# Altium footprint library DG30825403P1400AH.PcbLib: 1 footprints
Each footprint in its own frame and in the unit in brackets; x right, y up, seen from the top. Pads: shape width x height; smd on the part's side, far side on the other; paste and mask are expansions set on the pad; w line width, h text height; cw(c..) or ccw(c..) is an arc to the next point about the centre after c.
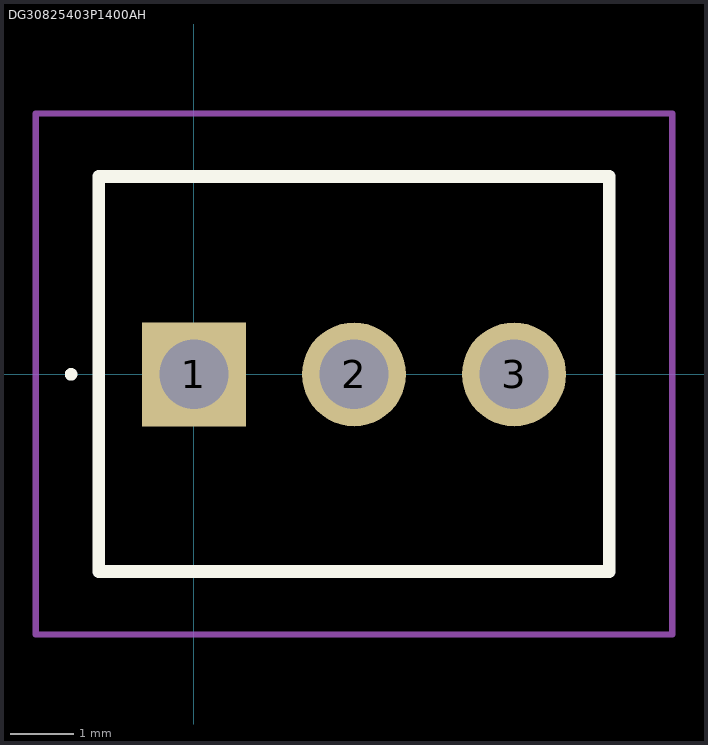
[diagram p0: the footprint, top view; thin cyan lines are the x and y axes]

## DG30825403P1400AH [mm]
pads (3):
  rect 1.65x1.65 hole 1.1: 1(0,0)
  round 1.65 hole 1.1: 2(2.54,0) 3(5.08,0)
Top Overlay:
  lines w0.1: -2,0 -2,0 ; -2,0 ccw(c-1.95,0) -1.9,0 ; -2,0 cw(c-1.95,0) -1.9,0 ; -1.9,0 -1.9,0
  lines w0.2: -1.51,-3.13 6.59,-3.13 6.59,3.14 -1.51,3.14 -1.51,-3.13
Mechanical 15:
  lines w0.1: -1.51,-3.13 6.59,-3.13 6.59,3.14 -1.51,3.14 -1.51,-3.13
Mechanical 20:
  lines w0.1: -2.51,-4.13 7.59,-4.13 7.59,4.14 -2.51,4.14 -2.51,-4.13